# Altium schematic symbol library PCF8523.SchLib: 1 symbol
Pins are listed as number, name and electrical type; pins without a type are passive.

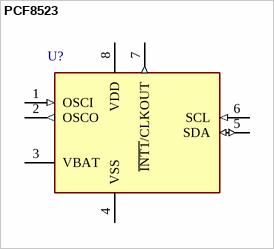
[diagram p0: symbol PCF8523]

## PCF8523
designator U?
pins: 1 OSCI (in), 2 OSCO (out), 3 VBAT (power), 4 VSS (power), 5 SDA (io), 6 SCL (in), 7 ~{INT1}/CLKOUT (out), 8 VDD (power)